# EAGLE library part MAX618 (library maxim)
28V, PWM, Step-Up DC-DC Converter Source: MAX618.pdf
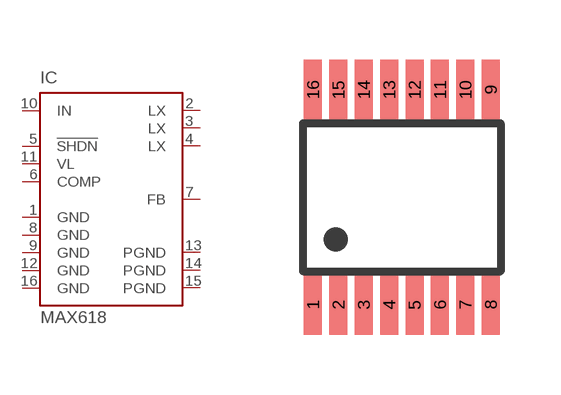
[diagram p398: symbol with the pads of QSOP16; footprint QSOP16]

Designator prefix IC

## MAX618 (MPN: MAX618EEE+T; OC_FARNELL: 1379776; OC_NEWARK: 67K5972)  [QSOP16]
1  GND  out
2  LX  oc
3  LX  oc
4  LX  oc
5  !SHDN  in
6  COMP  in
7  FB  in
8  GND  out
9  GND  out
10  IN  in
11  VL  out
12  GND  out
13  PGND  out
14  PGND  out
15  PGND  out
16  GND  out

## Footprint QSOP16 (pad centres in mm)
Small Outline Package
smd 0.45 x 1.5: 1 -2.223,-2.69; 2 -1.587,-2.69; 3 -0.953,-2.69; 4 -0.318,-2.69; 5 0.318,-2.69; 6 0.953,-2.69; 7 1.587,-2.69; 8 2.223,-2.69; 9 2.223,2.69; 10 1.587,2.69; 11 0.953,2.69; 12 0.318,2.69; 13 -0.318,2.69; 14 -0.953,2.69; 15 -1.587,2.69; 16 -2.223,2.69